# Altium schematic symbol library MainSchLib.SchLib: 9 symbols
Pins are listed as number, name and electrical type; pins without a type are passive.

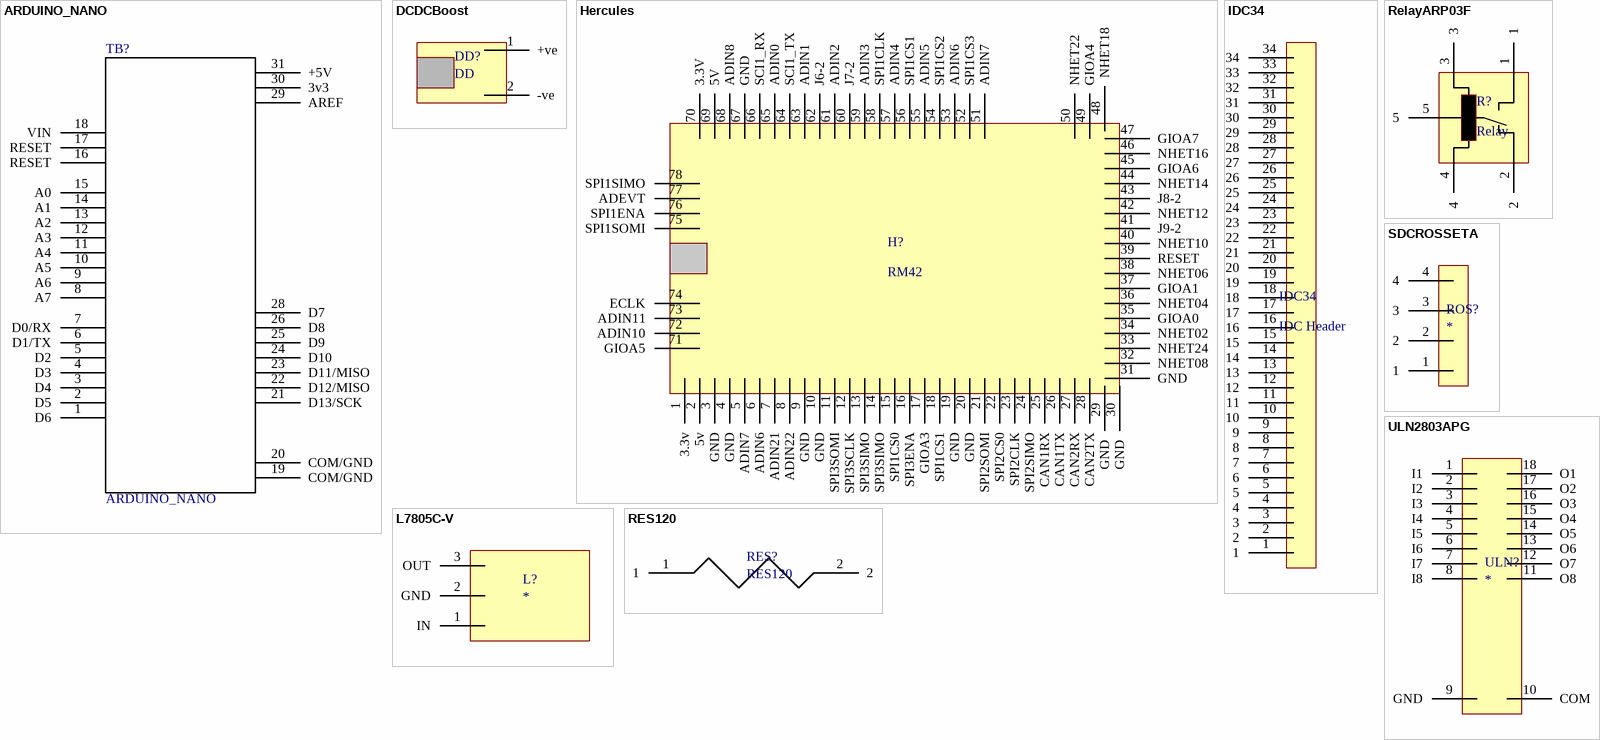
[diagram p0: symbols ARDUINO_NANO to ULN2803APG]

## ARDUINO_NANO
designator TB?
Dev.kit: Arduino; UART; ICSP, USB B mini, pin strips; MP: ARDUINO NANO; SnapEDA_Link: https://www.snapeda.com/parts/ARDUINO%20NANO/Arduino/view-part/?ref=snap; Price: None; Availability: Unavailable; MF: Arduino; Package: None; Value: *
footprint SHIELD_ARDUINO_NANO
pins: 1 D6, 2 D5, 3 D4, 4 D3, 5 D2, 6 D1/TX, 7 D0/RX, 8 A7, 9 A6, 10 A5, 11 A4, 12 A3, 13 A2, 14 A1, 15 A0, 16 RESET, 17 RESET, 18 VIN, 19 COM/GND, 20 COM/GND, 21 D13/SCK, 22 D12/MISO, 23 D11/MISO, 24 D10, 25 D9, 26 D8, 28 D7, 29 AREF, 30 3v3, 31 +5V

## DCDCBoost
designator DD?, comment DD
footprint DCDCBoost
pins: 1 +ve, 2 -ve

## Hercules
designator H?, comment RM42
footprint Hercules
pins: 1 3.3v, 2 5v, 3 GND, 4 GND, 5 ADIN7, 6 ADIN6, 7 ADIN21, 8 ADIN22, 9 GND, 10 GND, 11 SPI3SOMI, 12 SPI3SCLK, 13 SPI3SIMO, 14 SPI3SIMO, 15 SPI1CS0, 16 SPI3ENA, 17 GIOA3, 18 SPI1CS1, 19 GND, 20 GND, 21 SPI2SOMI, 22 SPI2CS0, 23 SPI2CLK, 24 SPI2SIMO, 25 CAN1RX, 26 CAN1TX, 27 CAN2RX, 28 CAN2TX, 29 GND, 30 GND, 31 GND, 32 NHET08, 33 NHET24, 34 NHET02, 35 GIOA0, 36 NHET04, 37 GIOA1, 38 NHET06, 39 RESET, 40 NHET10, 41 J9-2, 42 NHET12, 43 J8-2, 44 NHET14, 45 GIOA6, 46 NHET16, 47 GIOA7, 48 NHET18, 49 GIOA4, 50 NHET22, 51 ADIN7, 52 SPI1CS3, 53 ADIN6, 54 SPI1CS2, 55 ADIN5, 56 SPI1CS1, 57 ADIN4, 58 SPI1CLK, 59 ADIN3, 60 J7-2, 61 ADIN2, 62 J6-2, 63 ADIN1, 64 SCI1_TX, 65 ADIN0, 66 SCI1_RX, 67 GND, 68 ADIN8, 69 5V, 70 3.3V, 71 GIOA5, 72 ADIN10, 73 ADIN11, 74 ECLK, 75 SPI1SOMI, 76 SPI1ENA, 77 ADEVT, 78 SPI1SIMO

## IDC34
designator IDC34, comment IDC Header
footprint IDC34
pins: 1, 2, 3, 4, 5, 6, 7, 8, 9, 10, 11, 12, 13, 14, 15, 16, 17, 18, 19, 20, 21, 22, 23, 24, 25, 26, 27, 28, 29, 30, 31, 32, 33, 34

## L7805C-V
designator L?
STMICROELECTRONICS 	   	L7805CV 	   	Linear Voltage Regulators & Vref; Manufacturer Part Number: L7805C-V; Max Input Voltage: 35V; Output Voltage: 5V; Max Output Current: 1.5A; Number of Outputs: 1; Polarity: Positive; Quiescent Current: 8mA; Output Type: Fixed; Dropout Voltage: 2V; Min Input Voltage: 7V; Tolerance: 5%; Power Supply Rejection Ratio (PSRR): 62dB; Supplier 1: Quest; Manufacturer: STMicroelectronics; Stock 1: 0; Mount: Through Hole; Case/Package: TO; Number of Pins: 3; Weight: 0.08113oz; Contact Plating: Gold; Min Operating Temperature: 0°C; Max Operating Temperature: 125°C; Packaging: Rail/Tube; Output Current: 1.5A; Package Quantity: 1000; Number of Regulators: 1; Nominal Output Voltage: 5V; Min Output Voltage: 5V; Output Configuration: Positive; Length: 10.4mm; Height: 9.15mm; Width: 4.6mm; Radiation Hardening: No; Lead Free: Lead Free; REACH SVHC: No SVHC; ComponentLink1URL: http://www.st.com/content/ccc/resource/technical/document/datasheet/41/4f/b3/b0/12/d4/47/88/CD00000444.pdf/files/CD00000444.pdf/jcr:content/translations/en.CD00000444.pdf?src-supplier=Digi-Key; ComponentLink1Description: http://www.st.com/content/ccc/resource/technical/document/datasheet/41/4f/b3/b0/12/d4/47/88/CD00000444.pdf/files/CD00000444.pdf/jcr:content/translations/en.CD00000444.pdf?src-supplier=Digi-Key; ComponentLink2URL: https://www.verical.com/server-webapp/html/getDatasheet?partID=44136&src-supplier=Verical; ComponentLink2Description: https://www.verical.com/server-webapp/html/getDatasheet?partID=44136&src-supplier=Verical; ComponentLink3URL: http://www.jameco.com/Jameco/Products/ProdDS/924633.pdf?src-supplier=Jameco; ComponentLink3Description: http://www.jameco.com/Jameco/Products/ProdDS/924633.pdf?src-supplier=Jameco; ComponentLink4URL: http://www.farnell.com/datasheets/2051023.pdf?src-supplier=Element14; ComponentLink4Description: http://www.farnell.com/datasheets/2051023.pdf?src-supplier=Element14; ComponentLink5URL: https://www.distrelec.biz/Web/Downloads/xc/_e/teL78xx-L78xxC_e.pdf?mime=application%2Fpdf&src-supplier=Distrelec; ComponentLink5Description: https://www.distrelec.biz/Web/Downloads/xc/_e/teL78xx-L78xxC_e.pdf?mime=application%2Fpdf&src-supplier=Distrelec; ComponentLink6URL: http://www.farnell.com/datasheets/2307057.pdf?src-supplier=Element14; ComponentLink6Description: http://www.farnell.com/datasheets/2307057.pdf?src-supplier=Element14; ComponentLink7URL: http://www.rapidonline.com/pdf/47-3290e.pdf?src-supplier=Rapid+Electronics; ComponentLink7Description: http://www.rapidonline.com/pdf/47-3290e.pdf?src-supplier=Rapid+Electronics; ComponentLink8URL: http://www.farnell.com/datasheets/1805459.pdf?src-supplier=Element14; ComponentLink8Description: http://www.farnell.com/datasheets/1805459.pdf?src-supplier=Element14; ComponentLink9URL: http://www.st.com/web/en/resource/technical/document/datasheet/CD00000444.pdf?src-supplier=Digi-Key; ComponentLink9Description: http://www.st.com/web/en/resource/technical/document/datasheet/CD00000444.pdf?src-supplier=Digi-Key; ComponentLink10URL: http://www.farnell.com/datasheets/1805459.pdf?src-supplier=Newark; ComponentLink10Description: http://www.farnell.com/datasheets/1805459.pdf?src-supplier=Newark; ComponentLink11URL: http://www.st.com/web/en/resource/technical/document/datasheet/CD00000444.pdf?src-supplier=Future+Electronics; ComponentLink11Description: http://www.st.com/web/en/resource/technical/document/datasheet/CD00000444.pdf?src-supplier=Future+Electronics; ComponentLink12URL: http://www.produktinfo.conrad.com/datenblaetter/150000-174999/156048-da-01-en-SPANNUNGSREGLER_L_7805_CV__TO220__STM.pdf?src-supplier=Conrad; ComponentLink12Description: http://www.produktinfo.conrad.com/datenblaetter/150000-174999/156048-da-01-en-SPANNUNGSREGLER_L_7805_CV__TO220__STM.pdf?src-supplier=Conrad; ComponentLink13URL: http://datasheet.iiic.cc/stmicroelectronics/L7805CV.pdf?src-supplier=IIIC; ComponentLink13Description: http://datasheet.iiic.cc/stmicroelectronics/L7805CV.pdf?src-supplier=IIIC; Supplier Part Number 1: L7805CV
footprint L7805C-P
pins: 1 IN, 2 GND, 3 OUT

## RelayARP03F
designator R?, comment Relay
Max 12A switching capability / 1 form A and 1 form C contact arrangement / Coil voltage: 3~48VDC / Contact capacity: 10A  28VDC / 240VAC / Outline size: 19×15.5×15.5 (mm); Coil Voltage: 3-48v; Category: Relays; Max Switching Current: 12A
footprint RelayARP03F
pins: 1, 2, 3, 4, 5

## RES120
designator RES?
Carbon Resistor 120.0 ohm 1/4W
footprint RES120
pins: 1, 2

## SDCROSSETA
designator ROS?
footprint ROSSETA
pins: 1, 2, 3, 4

## ULN2803APG
designator ULN?
footprint ULN2803APG
pins: 1 I1, 2 I2, 3 I3, 4 I4, 5 I5, 6 I6, 7 I7, 8 I8, 9 GND, 10 COM, 11 O8, 12 O7, 13 O6, 14 O5, 15 O4, 16 O3, 17 O2, 18 O1